# Altium footprint library AdamsParts.PcbLib: 238 footprints (part 12 of 15)
Each footprint in its own frame and in the unit in brackets; x right, y up, seen from the top. Pads: shape width x height; smd on the part's side, far side on the other; paste and mask are expansions set on the pad; w line width, h text height; cw(c..) or ccw(c..) is an arc to the next point about the centre after c.
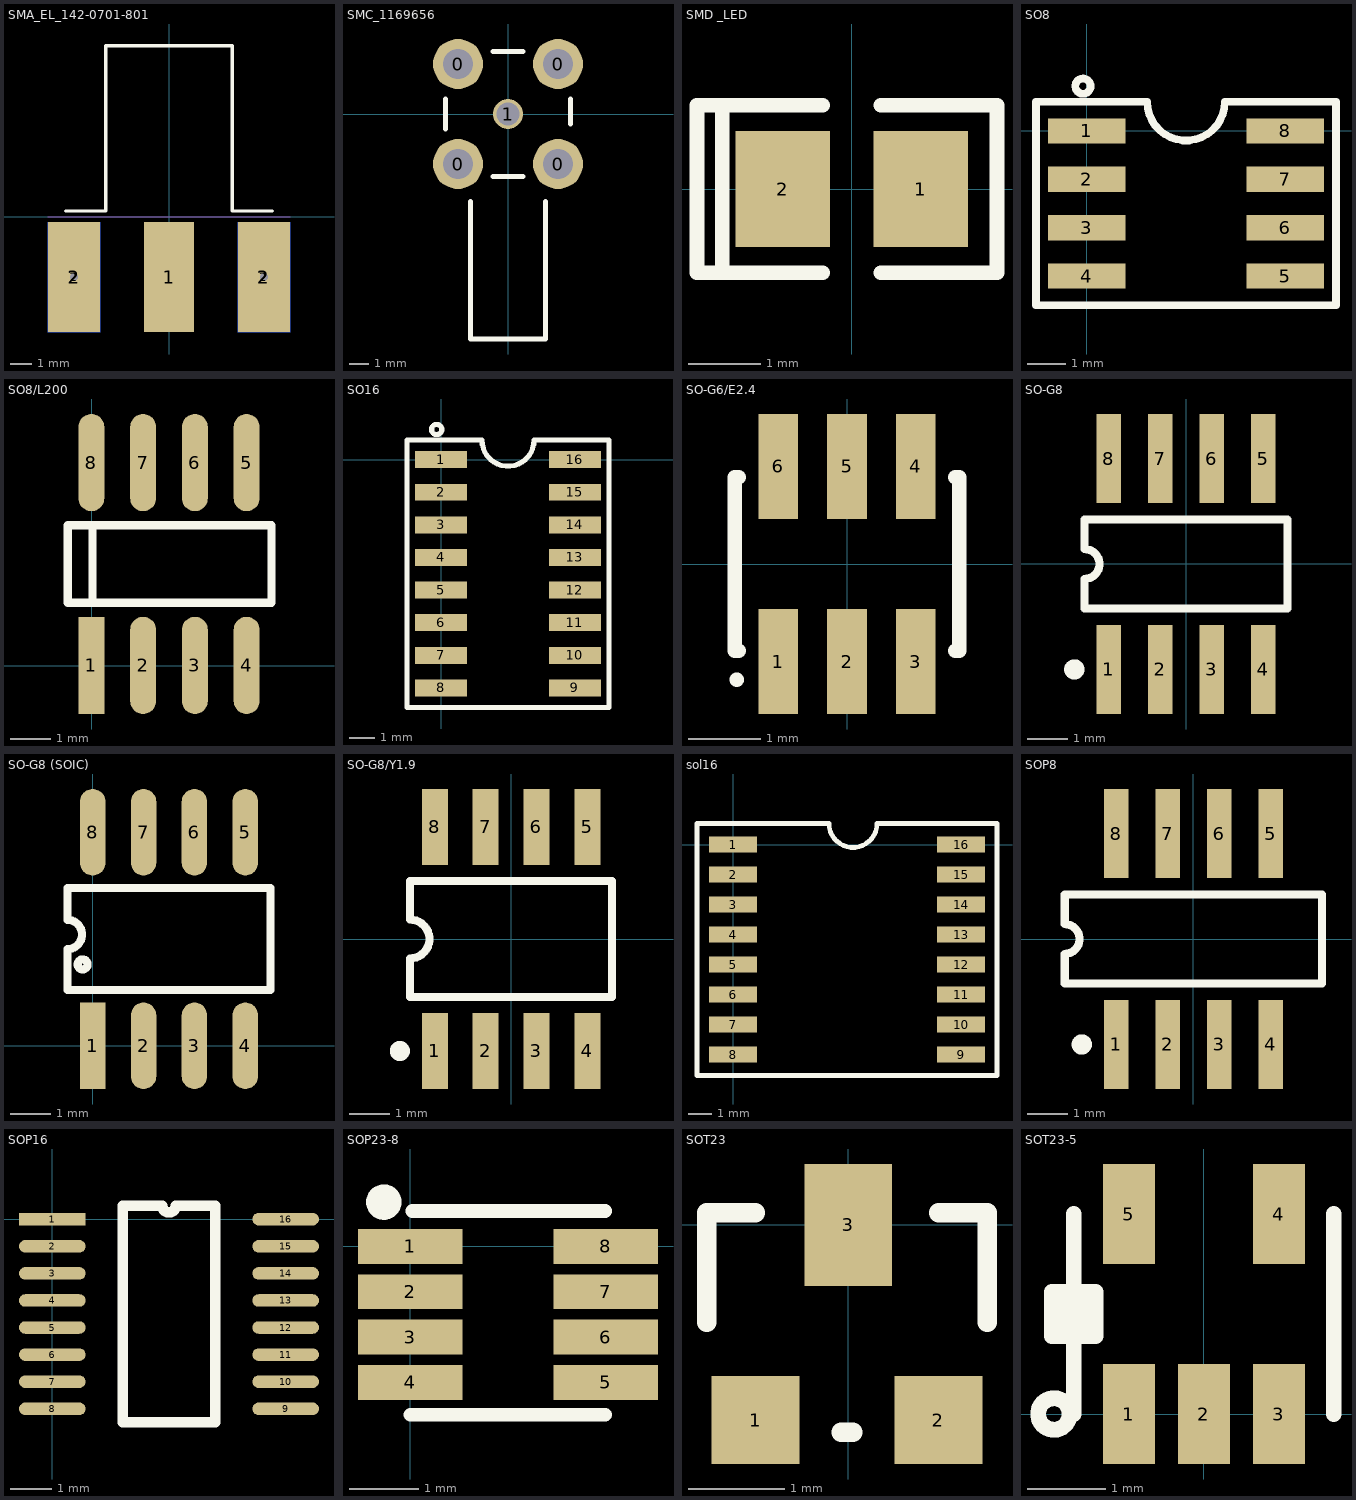
[diagram p11: the footprints below, top view; thin cyan lines are the x and y axes]

## SMA_EL_142-0701-801 [mil]
pads (7):
  rect 90x200 smd: 1(0,-110)
  rect 95x200 smd: 2(-172.5,-110) 2(172.5,-110)
  rect 95x200 smd far side: 2(-172.5,-110) 2(172.5,-110)
  round 28 hole 15: 2(-172.5,-110) 2(172.5,-110)
Top Overlay:
  lines w6: -187.5,10 -115,10 -115,310 115,310 115,10 187.5,10
Mechanical 2:
  lines w2: -220,0 0,0 220,0

## SMC_1169656 [mil] "SMC connector - Right angle - through hole"
height 7.1
pads (5):
  round 100 hole 60: 0(-100,-100) 0(-100,100) 0(100,-100) 0(100,100)
  round 60 hole 46: 1(0,0)
Top Overlay:
  lines w10: -125,-30 -125,30 ; -75,-175 -75,-450 75,-450 75,-175 ; -30,-125 30,-125 ; -30,125 30,125 ; 125,-20 125,30

## SMD _LED [mm]
pads (2):
  rect 1.3x1.6 smd: 1(0.95,0) 2(-0.95,0)
Top Overlay:
  lines w0.2: -1.78,-1.15 -1.78,1.15 ; -0.4,-1.15 -2.13,-1.15 -2.13,1.15 -0.4,1.15 ; 0.4,-1.15 2,-1.15 2,1.15 0.4,1.15

## SO8 [mil]
pads (8):
  rect 80x26 smd: 1(0,0) 2(0,-50) 3(0,-100) 4(0,-150) 5(205,-150) 6(205,-100) 7(205,-50) 8(205,0)
Top Overlay:
  circle w7.87: c-3.94,46.26 r7.87
  lines w7.87: -52.5,-180 -52.5,30 62.5,30 ccw(c102.5,30) 142.5,30 257.5,30 257.5,-180 -52.5,-180

## SO8/L200 [mil]
pads (8):
  rect 25x94 smd: 1(-0.4,0.18)
  oval 25x94 smd: 2(49.6,0.18) 3(99.6,0.18) 4(149.6,0.18) 5(149.6,196.18) 6(99.6,196.18) 7(49.6,196.18) 8(-0.4,196.18)
Top Overlay:
  lines w8: 0.6,60.68 0.6,135.68 ; -23.4,60.68 173.6,60.68 173.6,135.68 -23.4,135.68 -23.4,60.68

## SO16 [mil]
pads (16):
  rect 80x26 smd: 1(0,0) 2(0,-50) 3(0,-100) 4(0,-150) 5(0,-200) 6(0,-250) 7(0,-300) 8(0,-350) 9(205,-350) 10(205,-300) 11(205,-250) 12(205,-200) 13(205,-150) 14(205,-100) 15(205,-50) 16(205,0)
Top Overlay:
  circle w7.87: c-6.89,46.26 r7.87
  lines w7.87: -52.5,-380 257.5,-380 257.5,30 142.5,30 cw(c102.5,30) 62.5,30 -52.5,30 -52.5,-380

## SO-G6/E2.4 [mm]
pads (6):
  rect 0.55x1.45 smd: 1(-0.95,-1.35) 2(0,-1.35) 3(0.95,-1.35) 4(0.95,1.35) 5(0,1.35) 6(-0.95,1.35)
Top Overlay:
  circle w0.1: c-1.525,-1.6 r0.05
  lines w0.2: -1.5,-1.2 -1.55,-1.2 -1.55,1.2 -1.5,1.2 ; 1.5,-1.2 1.55,-1.2 1.55,1.2 1.5,1.2

## SO-G8 [mm]
pads (8):
  rect 0.6x2.2 smd: 1(-1.905,-2.6) 2(-0.635,-2.6) 3(0.635,-2.6) 4(1.905,-2.6) 5(1.905,2.6) 6(0.635,2.6) 7(-0.635,2.6) 8(-1.905,2.6)
Top Overlay:
  circle w0.25: c-2.755,-2.6 r0.125
  lines w0.2: -2.5,-1.1 -2.5,-0.367 ccw(c-2.5,0) -2.5,0.367 -2.5,1.1 2.5,1.1 2.5,-1.1 -2.5,-1.1

## SO-G8 (SOIC) [mil]
pads (8):
  rect 25x85 smd: 1(0,0)
  oval 25x85 smd: 2(50,0) 3(100,0) 4(150,0) 5(150,210) 6(100,210) 7(50,210) 8(0,210)
Top Overlay:
  circle w7.87: c-9.92,80 r4.92
  lines w7.87: -25,55 175,55 175,155 -25,155 -25,123.87 cw(c-25,109.44) -25,95 -25,55

## SO-G8/Y1.9 [mm]
pads (8):
  rect 0.65x1.9 smd: 1(-1.905,-2.8) 2(-0.635,-2.8) 3(0.635,-2.8) 4(1.905,-2.8) 5(1.905,2.8) 6(0.635,2.8) 7(-0.635,2.8) 8(-1.905,2.8)
Top Overlay:
  circle w0.25: c-2.78,-2.8 r0.125
  lines w0.2: -2.525,-1.45 -2.525,-0.483 ccw(c-2.525,0) -2.525,0.483 -2.525,1.45 2.525,1.45 2.525,-1.45 -2.525,-1.45

## sol16 [mil]
pads (16):
  rect 80x26 smd: 1(0,0) 2(0,-50) 3(0,-100) 4(0,-150) 5(0,-200) 6(0,-250) 7(0,-300) 8(0,-350) 9(380,-350) 10(380,-300) 11(380,-250) 12(380,-200) 13(380,-150) 14(380,-100) 15(380,-50) 16(380,0)
Top Overlay:
  lines w8: -60,-385 -60,35 160,35 ccw(c200,35) 240,35 440,35 440,-385 -60,-385

## SOP8 [mm]
pads (8):
  rect 0.6x2.2 smd: 1(-1.905,-2.6) 2(-0.635,-2.6) 3(0.635,-2.6) 4(1.905,-2.6) 5(1.905,2.6) 6(0.635,2.6) 7(-0.635,2.6) 8(-1.905,2.6)
Top Overlay:
  circle w0.25: c-2.755,-2.6 r0.125
  lines w0.2: -3.175,-1.1 -3.175,-0.367 ccw(c-3.175,0) -3.175,0.367 -3.175,1.1 3.175,1.1 3.175,-1.1 -3.175,-1.1

## SOP16 [mm]
pads (16):
  rect 1.6x0.3 smd: 1(0,0)
  oval 1.6x0.3 smd: 2(0,-0.65) 3(0,-1.3) 4(0,-1.95) 5(0,-2.6) 6(0,-3.25) 7(0,-3.9) 8(0,-4.55) 9(5.6,-4.55) 10(5.6,-3.9) 11(5.6,-3.25) 12(5.6,-2.6) 13(5.6,-1.95) 14(5.6,-1.3) 15(5.6,-0.65) 16(5.6,0)
Top Overlay:
  lines w0.254: 1.689,-4.875 1.689,0.325 2.638,0.325 ccw(c2.8,0.325) 2.962,0.325 3.911,0.325 3.911,-4.875 1.689,-4.875

## SOP23-8 [mm]
pads (8):
  rect 1.5x0.5 smd: 1(0,0) 2(0,-0.65) 3(0,-1.3) 4(0,-1.95) 5(2.8,-1.95) 6(2.8,-1.3) 7(2.8,-0.65) 8(2.8,0)
Top Overlay:
  circle w0.254: c-0.381,0.635 r0.127
  lines w0.2: 0,-2.413 2.794,-2.413 ; 0.034,0.508 0.254,0.508 2.794,0.508

## SOT23 [mil]
pads (3):
  rect 36x36 smd: 1(-38,-80) 2(37,-80)
  rect 36x50 smd: 3(0,0)
Top Overlay:
  lines w7.87: -58,-40 -58,5 -38,5 ; -3,-85 2,-85 ; 37,5 57,5 57,-40

## SOT23-5 [mil]
pads (5):
  rect 26x50 smd: 1(-37.5,0) 2(0,0) 3(37.5,0) 4(37.5,100) 5(-37.5,100)
Top Overlay:
  circle w7.87: c-75,0 r7.87
  lines w7.87: -70,39 -70,61 ; -65,0 -65,100 ; -60,39 -60,61 ; 65,0 65,100 ; -76,39 -76,61 -54,61 -54,39 -76,39